# Altium footprint library ISO-V3.PcbLib: 63 footprints (part 2 of 4)
Each footprint in its own frame and in the unit in brackets; x right, y up, seen from the top. Pads: shape width x height; smd on the part's side, far side on the other; paste and mask are expansions set on the pad; w line width, h text height; cw(c..) or ccw(c..) is an arc to the next point about the centre after c.
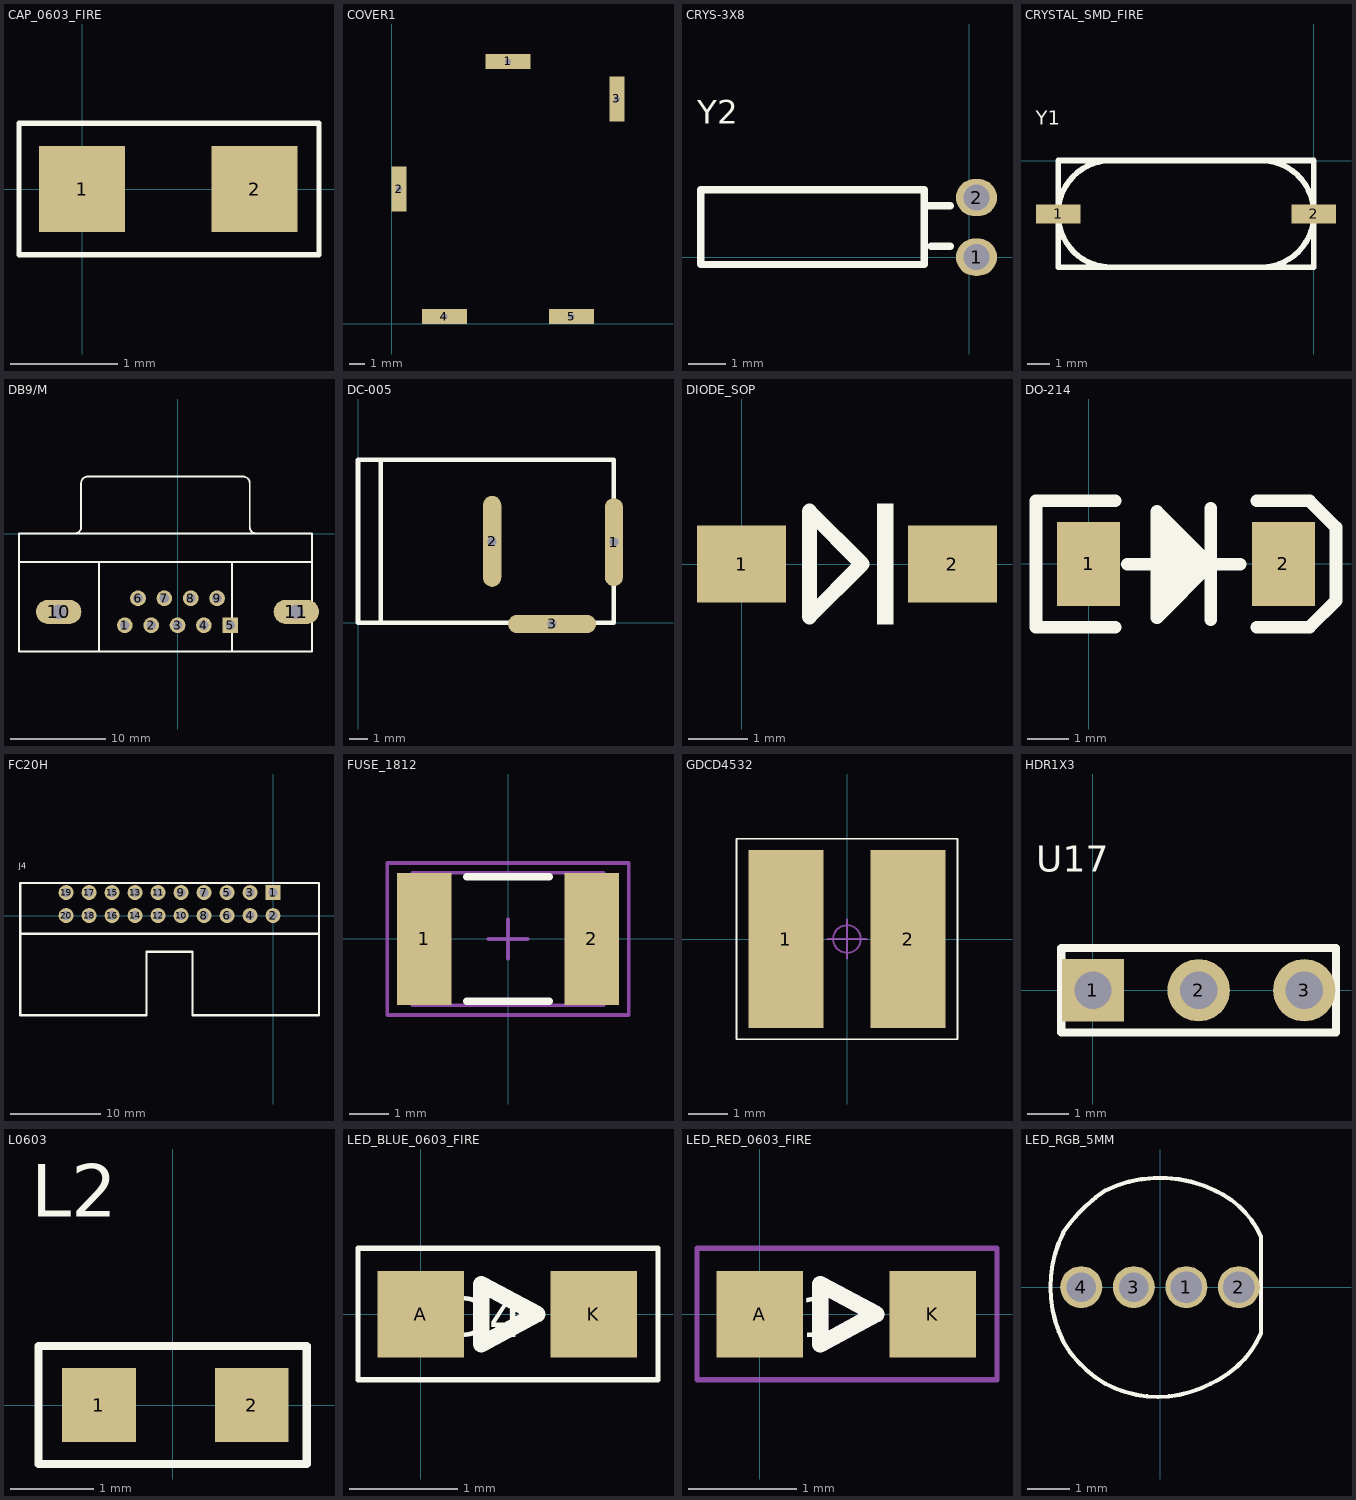
[diagram p1: the footprints below, top view; thin cyan lines are the x and y axes]

## CAP_0603_FIRE [mm]
pads (2):
  rect 0.8x0.8 smd: 1(0,0) 2(1.6,0)
Top Overlay:
  lines w0.051: -0.584,-0.61 2.197,-0.61 2.197,0.61 -0.584,0.61 -0.584,-0.61

## COVER1 [mm]
pads (5):
  rect 3x1 hole 0.4: 1(7.75,17.5) 4(3.5,0.5) 5(12,0.5)
  rect 1x3 hole 0.4: 2(0.5,9) 3(15,15)

## CRYS-3X8 [mm]
pads (2):
  oval 1.1x1 hole 0.7: 1(0.199,-0.003) 2(0.199,1.597)
Top Overlay:
  lines w0.2: -1.09,1.375 -0.5,1.375 ; -1.022,0.292 -0.5,0.292 ; -7.2,-0.2 -7.2,1.8 -1.2,1.8 -1.2,-0.2 -7.2,-0.2
  text "Y2" at -7.3,3.57 h0.64

## CRYSTAL_SMD_FIRE [mm]
pads (2):
  rect 2x0.85 smd: 1(-11.5,-2.4) 2(0,-2.4)
Top Overlay:
  lines w0.254: -11.5,-2.469 -11.5,-2.4 ; -11.5,-2.468 ccw(c-9.135,-2.435) -9.102,-4.8 ; -11.5,-2.398 cw(c-9.135,-2.365) -9.168,0 ; -2.398,0 cw(c-2.365,-2.365) 0,-2.332 ; -2.332,-4.8 ccw(c-2.365,-2.435) 0,-2.402 ; 0,-2.4 0,-2.331 ; -11.5,-4.8 0,-4.8 0,0 -11.5,0 -11.5,-4.8
  text "Y1" at -12.5,1.6 h0.64

## DB9/M [mil]
pads (11):
  round 65 hole 40: 1(-218.11,-379.92) 2(-109.06,-379.92) 3(0,-379.92) 4(109.06,-379.92) 6(-163.58,-268.11) 7(-54.53,-268.11) 8(54.53,-268.11) 9(163.58,-268.11)
  rrect0% 65x65 hole 40: 5(218.11,-379.92)
  oval 187.4x100 hole 60: 10(-491.93,-324.02) 11(491.93,-324.02)
Top Overlay:
  lines w7.87: -656.3,-118.11 556.3,-118.11 ; -426.38,0.2 ccw(c-426.38,27.56) -399.02,27.56 -398.82,208.86 cw(c-371.46,208.86) -371.46,236.22 271.46,236.22 cw(c271.46,208.86) 298.82,208.86 299.02,27.56 ccw(c326.38,27.56) 326.38,0.2 ; -325.59,-488.19 -325.59,-118.11 ; 225.59,-488.19 225.59,-118.11 ; -656.3,-488.19 -656.3,0 556.3,0 556.3,-488.19 -656.3,-488.19

## DC-005 [mm]
pads (3):
  oval 1x4.826 hole 0.5: 1(14,4.399)
  oval 1x4.978 hole 0.5: 2(7.341,4.445)
  oval 4.826x1 hole 0.5: 3(10.617,-0.076)
Top Overlay:
  lines w0.254: 1.245,0.051 1.245,8.9 ; 0,0 0,8.9 14,8.9 14,0 0,0

## DIODE_SOP [mm]
pads (2):
  rect 1.5x1.3 smd: 1(0,0) 2(3.556,0)
Top Overlay:
  region: 2.286,-1.016 2.559,-1.016 2.559,1.016 2.286,1.016
  lines w0.254: 1.143,-0.889 2.032,0 1.143,0.889 1.143,-0.889

## DO-214 [mil]
pads (2):
  rect 60x80 smd: 1(0,0) 2(185,0)
Top Overlay:
  region: 64.92,-25.05 91,-25.05 91,22.87 64.92,22.87
  lines w12: 25,-60 -50,-60 -50,60 25,60 ; 36.92,-0.13 143.92,-0.13 ; 64.92,33.87 100.29,-1.51 66.66,-35.13 ; 115.92,-53.13 115.92,52.87 ; 160,-60 209.92,-60 235,-34.92 235,34.87 209.87,60 160,60 ; 64.92,-51.13 115.92,-0.13 115.92,-1.13 64.92,49.87 64.92,-51.13

## FC20H [mil]
pads (20):
  rect 65x65 hole 40: 1(0,100)
  round 65 hole 40: 2(0,0) 3(-100,100) 4(-100,0) 5(-200,100) 6(-200,0) 7(-300,100) 8(-300,0) 9(-400,100) 10(-400,0) 11(-500,100) 12(-500,0) 13(-600,100) 14(-600,0) 15(-700,100) 16(-700,0) 17(-800,100) 18(-800,0) 19(-900,100) 20(-900,0)
Top Overlay:
  lines w10: -1100,-78.74 -1100,-433.07 -550,-433.07 -550,-157.48 -350,-157.48 -350,-433.07 200,-433.07 200,-78.74 ; -1100,-78.74 -1100,141.26 200,141.26 200,-78.74 ; -1100,-78.74 200,-78.74
  text "J4" at -1105,204.26 h25

## FUSE_1812 [mm]
height 0.34
pads (2):
  rect 1.4x3.4 smd: 1(-2.15,0) 2(2.15,0)
Top Overlay:
  lines w0.2: -1.05,-1.6 1.05,-1.6 ; -1.05,1.6 1.05,1.6
Mechanical 16:
  lines w0.1: -0.5,0 0.5,0 ; 0,-0.5 0,0.5 ; -3.1,-1.95 3.1,-1.95 3.1,1.95 -3.1,1.95 -3.1,-1.95 ; -2.45,-1.7 2.45,-1.7 2.45,1.7 -2.45,1.7 -2.45,-1.7

## GDCD4532 [mm]
height 5.3
pads (2):
  rect 1.9x4.5 smd: 1(-1.55,0) 2(1.55,0)
Top Overlay:
  lines w0.05: -2.794,-2.54 2.794,-2.54 2.794,2.54 -2.794,2.54 -2.794,-2.54
Mechanical 16:
  circle w0.05: c0,0 r0.35
  lines w0.05: -0.5,0 0.5,0 ; 0,-0.5 0,0.5

## HDR1X3 [mm]
height 1.2
pads (3):
  rect 1.5x1.5 hole 0.9: 1(0,0)
  round 1.5 hole 0.9: 2(2.54,0) 3(5.08,0)
Top Overlay:
  lines w0.2: -0.762,-1.016 -0.762,1.016 5.842,1.016 5.842,-1.016 -0.762,-1.016
  text "U17" at -1.37,2.843 h0.64

## L0603 [mil]
pads (2):
  rect 35x35 smd: 1(-35,0) 2(37.49,0)
Top Overlay:
  lines w3.94: -63.74,-28 -63.74,28 63.74,28 63.74,-28 -63.74,-28
  text "L2" at -67.24,89.5 h25

## LED_BLUE_0603_FIRE [mm]
pads (2):
  rect 0.8x0.8 smd: A(0,0) K(1.6,0)
Top Overlay:
  lines w0.051: -0.579,-0.605 -0.579,0.607 2.193,0.607 2.193,-0.605 -0.579,-0.605
  lines w0.152: 0.562,-0.277 0.562,0.277 1.076,0.001 0.562,-0.277
  text "D4" at 0.228,-0.214 h0.38

## LED_RED_0603_FIRE [mm]
pads (2):
  rect 0.8x0.8 smd: A(0,0) K(1.6,0)
Top Overlay:
  lines w0.152: 0.562,-0.277 0.562,0.277 1.076,0.001 0.562,-0.277
  text "D1" at -0.026,-0.214 h0.38
Mechanical 1:
  lines w0.051: -0.579,-0.605 -0.579,0.607 2.193,0.607 2.193,-0.605 -0.579,-0.605
  lines w0.152: 0.562,-0.277 0.562,0.277 1.076,0.001 0.562,-0.277

## LED_RGB_5MM [mm]
pads (4):
  round 1 hole 0.75: 1(0.625,0) 2(1.875,0)
  round 1 hole 0.7: 3(-0.625,0) 4(-1.875,0)
Top Overlay:
  lines w0.1: -2.301,1.297 ccw(c0.3,0) -2.299,-1.302 ; -2.299,-1.301 ccw(c0.05,0.05) -1.301,-2.299 ; -2.299,1.302 cw(c0.65,-0.65) -1.297,2.302 ; -1.3,-2.3 ccw(c-0.05,0.05) 1.2,-2.3 ; -1.299,2.301 cw(c0,-0.35) 1.303,2.298 ; 1.202,-2.299 ccw(c0.25,-0.15) 2.401,-1.099 ; 1.302,2.299 cw(c0.45,0.35) 2.401,1.198 ; 2.4,-1.1 2.4,1.2
  text "D3" at 0.228,-0.214 h0.38